# Altium footprint library Transformer.PcbLib: 3 footprints
Each footprint in its own frame and in the unit in brackets; x right, y up, seen from the top. Pads: shape width x height; smd on the part's side, far side on the other; paste and mask are expansions set on the pad; w line width, h text height; cw(c..) or ccw(c..) is an arc to the next point about the centre after c.
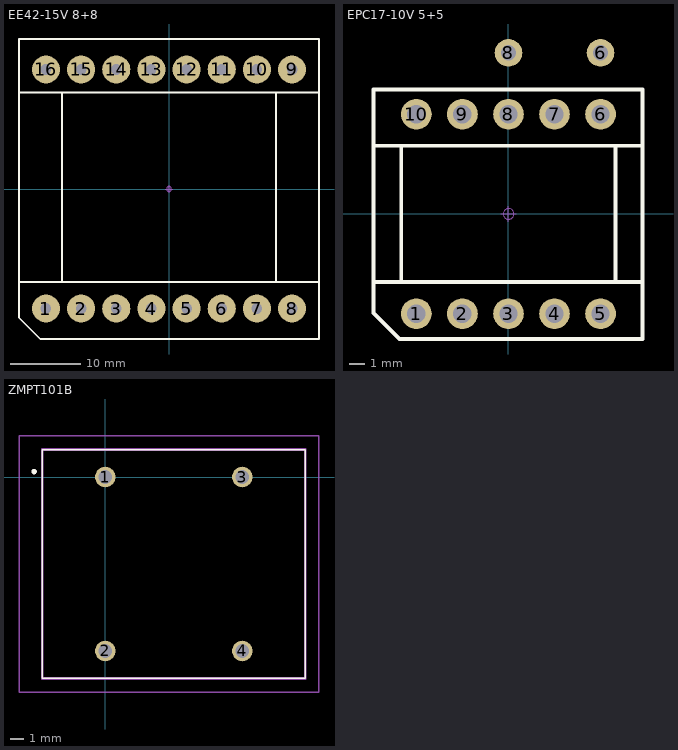
[diagram p0: the footprints below, top view; thin cyan lines are the x and y axes]

## EE42-15V 8+8 [mm] "��о 42mm  ��42mm  ��32mm"
pads (16):
  round 4 hole 1.5: 1(-17.5,-17) 2(-12.5,-17) 3(-7.5,-17) 4(-2.5,-17) 5(2.5,-17) 6(7.5,-17) 7(12.5,-17) 8(17.5,-17) 9(17.5,17) 10(12.5,17) 11(7.5,17) 12(2.5,17) 13(-2.5,17) 14(-7.5,17) 15(-12.5,17) 16(-17.5,17)
Top Overlay:
  lines w0.254: -21.336,-13.208 21.336,-13.208 ; -21.336,13.716 21.336,13.716 ; -15.24,-13.208 -15.24,13.716 ; 15.24,-13.208 15.24,13.716 ; -21.336,-18.288 -21.336,21.336 21.336,21.336 21.336,-21.336 -18.288,-21.336 -21.336,-18.288
Mechanical 15:
  circle w0.05: c0,0 r0.35
  lines w0.05: -0.5,0 0.5,0 ; 0,-0.5 0,0.5
3D body "EE42-15 8+8.STEP": height 31.55, standoff -3.15, extent -21.1,-21.1 21.1,21.1

## EPC17-10V 5+5 [mm] "��о17mm����10mm���ž�3mm��"
pads (12):
  round 2 hole 1.2: 1(-6,-6.5) 2(-3,-6.5) 3(0,-6.5) 4(3,-6.5) 5(6,-6.5) 6(6,6.5) 7(3,6.5) 8(0,6.5) 9(-3,6.5) 10(-6,6.5)
  round 1.8 hole 1: 6(6,10.5) 8(0,10.5)
Top Overlay:
  lines w0.254: -8.794,-4.445 8.732,-4.445 ; -8.794,4.445 8.732,4.445 ; -6.985,-4.445 -6.985,4.445 ; 6.985,-4.445 6.985,4.445 ; -8.794,-6.446 -7.089,-8.151 8.732,-8.151 8.732,8.105 -8.794,8.105 -8.794,-6.446
Mechanical 15:
  circle w0.05: c0,0 r0.35
  lines w0.05: -0.5,0 0.5,0 ; 0,-0.5 0,0.5
3D body "EPC17-10 5+5.STEP": height 9.75, standoff -3.15, extent -8.75,-8.1 8.75,8.1

## ZMPT101B [mm] "Current-type Voltage Transformer"
pads (4):
  round 1.5 hole 1: 1(0,0) 2(0,-12.7) 3(10,0) 4(10,-12.7)
Top Overlay:
  lines w0.1: -4.6,-14.7 -4.6,2 14.6,2 14.6,-14.7 -4.6,-14.7
  lines w0.2: -5.2,0.3 ccw(c-5.2,0.4) -5.2,0.5 ccw(c-5.2,0.4) -5.2,0.3
Mechanical 13:
  lines w0.2: -4.6,-14.7 -4.6,2 14.6,2 14.6,-14.7 -4.6,-14.7
Mechanical 15:
  lines w0.1: -6.3,-15.7 -6.3,3 15.6,3 15.6,-15.7 -6.3,-15.7
3D body "ZMPT101B.stp": height 18.8, standoff -5, extent -4.6,-14.7 14.6,2